# EAGLE library part 2SK389 (library transistor-fet_edited)
DUAL FIELD EFFECT TRANSISTOR SILICON MONOLITHIC N CHANNEL JUNCTION TYPE Source: http://pdf1.alldatasheet.com/datasheet-pdf/view/30769/TOSHIBA/2SK389.html
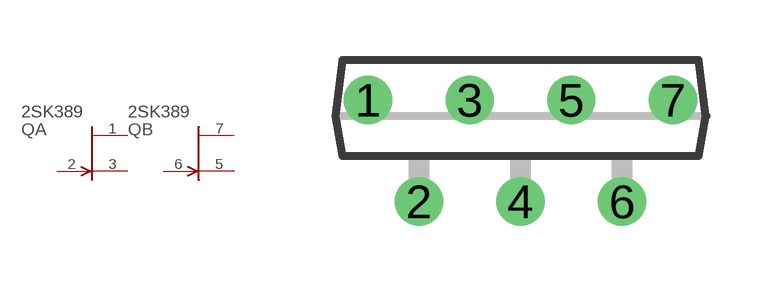
[diagram p8: symbol with the pads of 2-10M1A; footprint 2-10M1A]

Designator prefix Q; gates A=JFET_N B=JFET_N

## 2SK389  [2-10M1A]
1  A:D  pas
2  A:G  pas
3  A:S  pas
5  B:S  pas
6  B:G  pas
7  B:D  pas

## Footprint 2-10M1A (pad centres in mm)
Single In Line 2-10M1A Source: http://pdf1.alldatasheet.com/datasheet-pdf/view/30769/TOSHIBA/2SK389.html
drill 0.7 pad 1.2 round: 1 -3.81,0; 2 -2.54,-2.54; 3 -1.27,0; 4 0,-2.54; 5 1.27,0; 6 2.54,-2.54; 7 3.81,0